# EAGLE library part SSM2220SZ (library mmoretti)
Dual Matched PNP Transistor
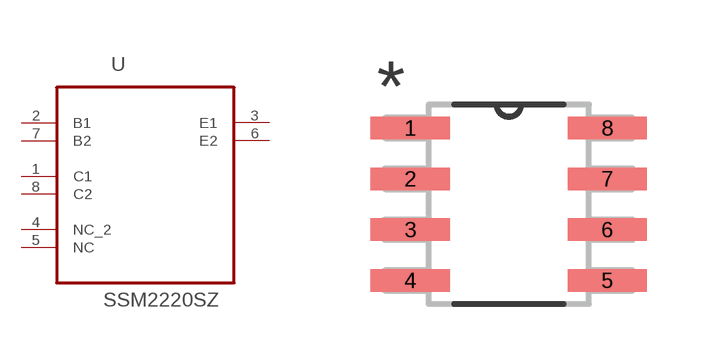
[diagram p1: symbol with the pads of SOIC127P600X175-8N; footprint SOIC127P600X175-8N]

Designator prefix U

## SSM2220SZ (MPN: SSM2220SZ; OC_FARNELL: 1438745; OC_NEWARK: 59K9120; PACKAGE: SOIC-8; SUPPLIER: Analog Devices)  [SOIC127P600X175-8N]
1  C1  pas
2  B1  pas
3  E1  pas
4  NC_2  nc
5  NC  nc
6  E2  pas
7  B2  pas
8  C2  pas

## Footprint SOIC127P600X175-8N (pad centres in mm)
smd 1.981 x 0.559: 1 -2.464,1.905; 2 -2.464,0.635; 3 -2.464,-0.635; 4 -2.464,-1.905; 5 2.464,-1.905; 6 2.464,-0.635; 7 2.464,0.635; 8 2.464,1.905